# EAGLE library part AD8131 (library Traficon)
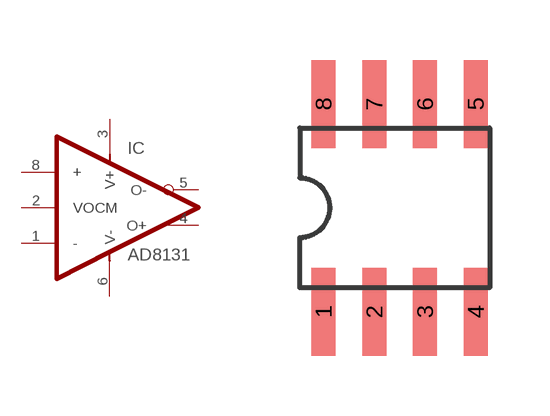
[diagram p86: symbol with the pads of SOIC8; footprint SOIC8]

Designator prefix IC

## AD8131  [SOIC8]
1  -
2  VOCM
3  V+
4  O+
5  O-
6  V-
8  +

## Footprint SOIC8 (pad centres in mm)
Small Outline IC
smd 0.6 x 2.2: 1 -1.905,-2.6; 2 -0.635,-2.6; 3 0.635,-2.6; 4 1.905,-2.6; 5 1.905,2.6; 6 0.635,2.6; 7 -0.635,2.6; 8 -1.905,2.6